# EAGLE library part 74*4066 (library 74ttl-din)
Quad analog SWITCH
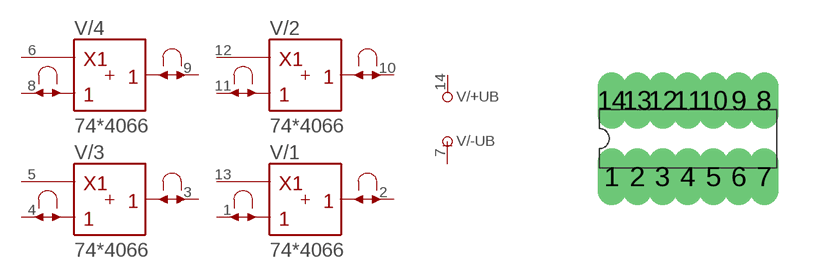
[diagram p147: symbol with the pads of DIL14; footprint DIL14]

Designator prefix V; gates /+UB=+UB /-UB=-UB /1=4066 /2=4066 /3=4066 /4=4066

## 744066N  [DIL14]
1  /1:A  pas
2  /1:B  pas
3  /3:B  pas
4  /3:A  pas
5  /3:C  in
6  /4:C  in
7  /-UB:-UB  pwr
8  /4:A  pas
9  /4:B  pas
10  /2:B  pas
11  /2:A  pas
12  /2:C  in
13  /1:C  in
14  /+UB:+UB  pwr

## Footprint DIL14 (pad centres in mm)
Dual In Line Package
drill 0.203 long: 1 -1.905,-0.953; 2 -1.27,-0.953; 3 -0.635,-0.953; 4 0,-0.953; 5 0.635,-0.953; 6 1.27,-0.953; 7 1.905,-0.953; 8 1.905,0.953; 9 1.27,0.953; 10 0.635,0.953; 11 0,0.953; 12 -0.635,0.953; 13 -1.27,0.953; 14 -1.905,0.953